# Altium schematic symbol library Graph.SchLib: 3 symbols
Pins are listed as number, name and electrical type; pins without a type are passive.

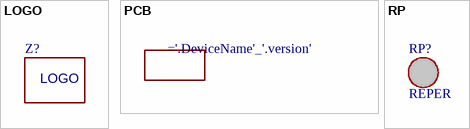
[diagram p0: symbols LOGO to RP]

## LOGO
designator Z?  (value not drawn)  (no BOM)
Тип: LOGO
footprint CLAP_LOGO
footprint CLAP_LOGO_SMALL
footprint GEMICLE_SILK_B

## PCB
designator ='.DeviceName'_'.version'

## RP
designator RP?, comment REPER  (no BOM)
footprint REPER_1.5mm
pins: 0 hidden